# EAGLE library part INA219 (library GRITSBot)
TI Zero-Drift, Bi-Directional CURRENT/POWER MONITOR with I2C Interface The INA219 is a high-side current shunt and power monitor with an I2C interface. The INA219 monitors bothshunt drop and supply voltage. Datasheet: http://www.ti.com/lit/ds/symlink/ina219.pdf
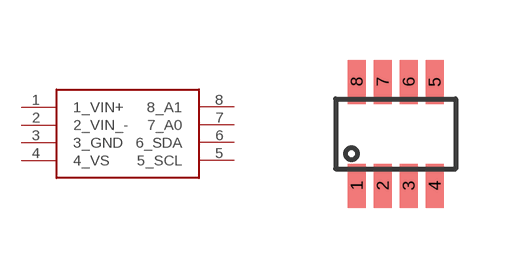
[diagram p20: symbol with the pads of SOT-23-8; footprint SOT-23-8]

Designator prefix -

## INA219  [SOT-23-8]
1  1_VIN+
2  2_VIN_-
3  3_GND
4  4_VS
5  5_SCL
6  6_SDA
7  7_A0
8  8_A1

## Footprint SOT-23-8 (pad centres in mm)
smd 0.45 x 1.1: 1 -0.975,-1.3; 2 -0.325,-1.3; 3 0.325,-1.3; 4 0.975,-1.3; 5 0.975,1.3; 6 0.325,1.3; 7 -0.325,1.3; 8 -0.975,1.3